# Altium schematic symbol library Term,Header,4x2 Pin,2.00mm,Top,SMD.Schlib: 1 symbol
Pins are listed as number, name and electrical type; pins without a type are passive.

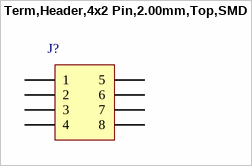
[diagram p0: symbol Term,Header,4x2 Pin,2.00mm,Top,SMD]

## Term,Header,4x2 Pin,2.00mm,Top,SMD
designator J?
pins: 1, 2, 3, 4, 5, 6, 7, 8